# EAGLE library part OLED_0.96_SPI (library A4988)
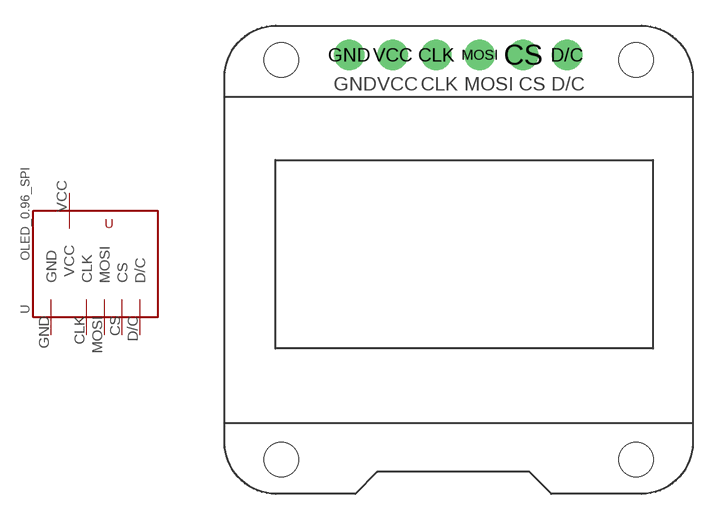
[diagram p25: symbol with the pads of OLED_0.96_SPI; footprint OLED_0.96_SPI]

Designator prefix -

## OLED_0.96_SPI  [OLED_0.96_SPI]
CLK  CLK
CS  CS
D/C  D/C
GND  GND
MOSI  MOSI
VCC  VCC

## Footprint OLED_0.96_SPI (pad centres in mm)
drill 1 pad 1.778: CLK -1.63,11.63; CS 3.45,11.63; D/C 5.99,11.63; GND -6.71,11.63; MOSI 0.91,11.63; VCC -4.17,11.63
hole 2 at -10.67,-11.97
hole 2 at 10.03,-11.97
hole 2 at 10.03,11.33
hole 2 at -10.67,11.33